# Altium schematic symbol library Capacitors.SchLib: 139 symbols (part 1 of 2)
Pins are listed as number, name and electrical type; pins without a type are passive.

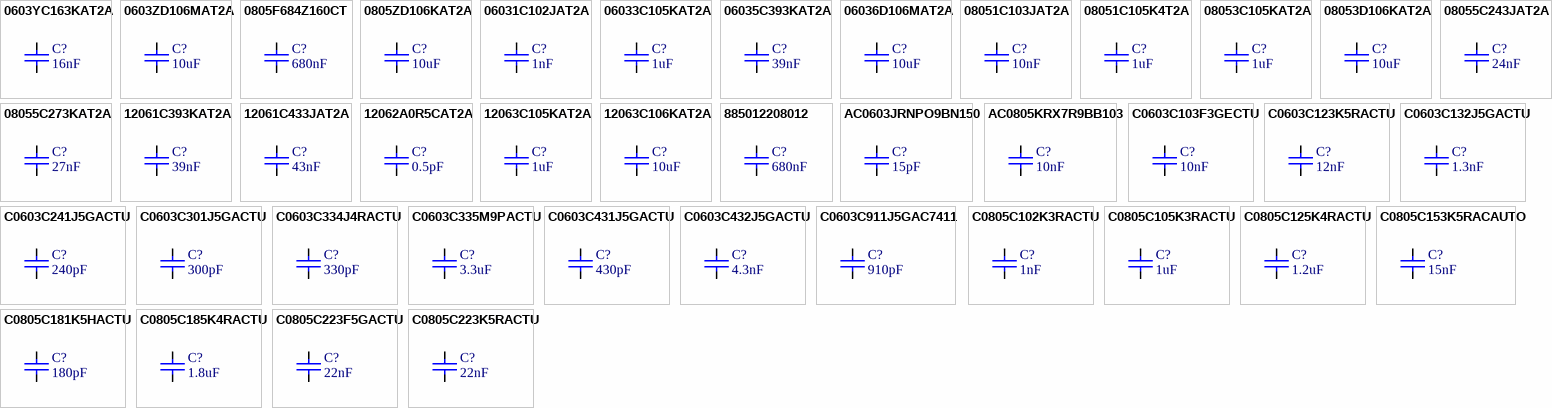
[diagram p0: symbols 0603YC163KAT2A to C0805C223K5RACTU]

## 0603YC163KAT2A
designator C?, comment 16nF
CAP MLCC, 16nF, 16V, 0603 [1608 metric], ±10%, X7R; Manufacturer: AVX; Manufacturer Part Number: 0603YC163KAT2A; Value: 16nF; Package: 0603 [1608 Metric]; Supplier 1: Mouser; Supplier Part Number 1: 581-0603YC163KAT2A; ComponentLink1Description: Datasheet; ComponentLink1URL: https://eu.mouser.com/datasheet/2/40/X7RDielectric-777024.pdf; Voltage: 16V; Tolerance: ± 10%; Dielectric: X7R; Part Type: MLCC; Mounting: SMD
footprint CAPC1608N (Chip Capacitor, Body 1.6x0.8mm, Height 0.55mm, IPC Medium Density)
pins: 1, 2

## 0603ZD106MAT2A
designator C?, comment 10uF
CAP MLCC, 10uF, 10V, 0603 [1608 Metric], ±20%, X5R; Manufacturer: AVX; Manufacturer Part Number: 0603ZD106MAT2A; Value: 10uF; Package: 0603 [1608 Metric]; Supplier 1: Farnell; Supplier Part Number 1: 1867954; ComponentLink1Description: Datasheet; ComponentLink1URL: http://www.farnell.com/datasheets/2237828.pdf; Voltage: 10V; Tolerance: ± 20%; Dielectric: X5R; Mounting: SMD; Part Type: MLCC
footprint CAPC1608N (Chip Capacitor, Body 1.6x0.8mm, Height 0.55mm, IPC Medium Density)
pins: 1, 2

## 0805F684Z160CT
designator C?, comment 680nF
CAP MLCC, 680nF, 16V, 0805 [2012 Metric], +80%, -20%, Y5V; Manufacturer: WALSIN; Manufacturer Part Number: 0805F684Z160CT; Value: 680nF; Package: 0805 [2012 Metric]; Supplier 1: Farnell; Supplier Part Number 1: 2495504; ComponentLink1Description: Datasheet; ComponentLink1URL: http://www.farnell.com/datasheets/2340522.pdf; Voltage: 16V; Tolerance: +80%, -20%; Dielectric: Y5V; Mounting: SMD; Part Type: MLCC
footprint CAPC2012N (Chip Capacitor, Body 2.0x1.25mm, IPC Medium Density)
pins: 1, 2

## 0805ZD106KAT2A
designator C?, comment 10uF
CAP MLCC, 10uF, 10V, 0805 [2012 Metric], ±10%, X5R; Manufacturer: AVX; Manufacturer Part Number: 0805ZD106KAT2A; Value: 10uF; Package: 0805 [2012 Metric]; Supplier 1: Farnell; Supplier Part Number 1: 1833812; ComponentLink1Description: Datasheet; ComponentLink1URL: http://www.farnell.com/datasheets/2237828.pdf; Voltage: 10V; Tolerance: ± 10%; Dielectric: X5R; Mounting: SMD; Part Type: MLCC
footprint CAPC2012N (Chip Capacitor, Body 2.0x1.25mm, IPC Medium Density)
pins: 1, 2

## 06031C102JAT2A
designator C?, comment 1nF
CAP MLCC, 1nF, 100V, 0603 [1608 Metric], ±5%, X7R; Manufacturer: AVX; Manufacturer Part Number: 06031C102JAT2A; Value: 1nF; Package: 0603 [1608 Metric]; Supplier 1: Farnell; Supplier Part Number 1: 1740627; ComponentLink1Description: Datasheet; ComponentLink1URL: http://www.farnell.com/datasheets/2237835.pdf; Voltage: 100V; Tolerance: ± 5%; Dielectric: X7R; Mounting: SMD; Part Type: MLCC
footprint CAPC1608N (Chip Capacitor, Body 1.6x0.8mm, Height 0.55mm, IPC Medium Density)
pins: 1, 2

## 06033C105KAT2A
designator C?, comment 1uF
CAP MLCC, 1uF, 25V, 0603 [1608 Metric], ±10%, X7R; Manufacturer: AVX; Manufacturer Part Number: 06033C105KAT2A; Value: 1uF; Package: 0603 [1608 Metric]; Supplier 1: Farnell; Supplier Part Number 1: 2749807; ComponentLink1Description: Datasheet; ComponentLink1URL: http://www.farnell.com/datasheets/2260754.pdf; Voltage: 25V; Tolerance: ± 10%; Dielectric: X7R; Mounting: SMD; Part Type: MLCC
footprint CAPC1608N (Chip Capacitor, Body 1.6x0.8mm, Height 0.55mm, IPC Medium Density)
pins: 1, 2

## 06035C393KAT2A
designator C?, comment 39nF
CAP MLCC, 39nF, 50V, 0603 [1608 Metric], ±10%, X7R; Manufacturer: AVX; Manufacturer Part Number: 06035C393KAT2A; Value: 39nF; Package: 0603 [1608 Metric]; Supplier 1: Farnell; Supplier Part Number 1: 1740619; ComponentLink1Description: Datasheet; ComponentLink1URL: http://www.farnell.com/datasheets/2237835.pdf; Voltage: 50V; Tolerance: ± 10%; Dielectric: X7R; Mounting: SMD; Part Type: MLCC
footprint CAPC1608N (Chip Capacitor, Body 1.6x0.8mm, Height 0.55mm, IPC Medium Density)
pins: 1, 2

## 06036D106MAT2A
designator C?, comment 10uF
CAP MLCC, 10uF, 6.3V, 0603 [1608 Metric], ±20%, X7R; Manufacturer: AVX; Manufacturer Part Number: 06036D106MAT2A; Value: 10uF; Package: 0603 [1608 Metric]; Supplier 1: Farnell; Supplier Part Number 1: 1833804; ComponentLink1Description: Datasheet; ComponentLink1URL: http://www.farnell.com/datasheets/2237828.pdf; Voltage: 6.3V; Tolerance: ± 20%; Dielectric: X7R; Mounting: SMD; Part Type: MLCC
footprint CAPC1608N (Chip Capacitor, Body 1.6x0.8mm, Height 0.55mm, IPC Medium Density)
pins: 1, 2

## 08051C103JAT2A
designator C?, comment 10nF
CAP MLCC, 10nF, 100V, 0805 [2012 Metric], ±5%, X7R; Manufacturer: AVX; Manufacturer Part Number: 08051C103JAT2A; Value: 10nF; Package: 0805 [2012 Metric]; Supplier 1: Farnell; Supplier Part Number 1: 2332713; ComponentLink1Description: Datasheet; ComponentLink1URL: http://www.farnell.com/datasheets/2237835.pdf; Voltage: 100V; Tolerance: ± 5%; Dielectric: X7R; Mounting: SMD; Part Type: MLCC
footprint CAPC2012N (Chip Capacitor, Body 2.0x1.25mm, IPC Medium Density)
pins: 1, 2

## 08051C105K4T2A
designator C?, comment 1uF
CAP MLCC, 1uF, 100V, 0805 [2012 Metric], ±5%, X7R; Manufacturer: AVX; Manufacturer Part Number: 08051C105K4T2A; Tolerance: ± 10%; Value: 1uF; Package: 0805 [2012 Metric]; Supplier 1: Farnell; Supplier Part Number 1: 2834935; ComponentLink1Description: Datasheet; ComponentLink1URL: http://www.farnell.com/datasheets/2571681.pdf; Voltage: 100V; Dielectric: X7R; Mounting: SMD; Part Type: MLCC
footprint CAPC2012N (Chip Capacitor, Body 2.0x1.25mm, IPC Medium Density)
pins: 1, 2

## 08053C105KAT2A
designator C?, comment 1uF
CAP MLCC, 1uF, 25V, 0805 [2012 Metric], ±10%, X7R; Manufacturer: AVX; Manufacturer Part Number: 08053C105KAT2A; Value: 1uF; Package: 0805 [2012 Metric]; Supplier 1: Farnell; Supplier Part Number 1: 1658877; ComponentLink1Description: Datasheet; ComponentLink1URL: http://www.farnell.com/datasheets/2237835.pdf; Voltage: 25V; Tolerance: ± 10%; Dielectric: X7R; Mounting: SMD; Part Type: MLCC
footprint CAPC2012N (Chip Capacitor, Body 2.0x1.25mm, IPC Medium Density)
pins: 1, 2

## 08053D106KAT2A
designator C?, comment 10uF
CAP MLCC, 10uF, 25V, 0805 [2012 Metric], ±10%, X7R; Manufacturer: AVX; Manufacturer Part Number: 08053D106KAT2A; Value: 10uF; Package: 0805 [2012 Metric]; Supplier 1: Farnell; Supplier Part Number 1: 1867958; ComponentLink1Description: Datasheet; ComponentLink1URL: http://www.farnell.com/datasheets/2237828.pdf; Voltage: 25V; Tolerance: ± 10%; Dielectric: X7R; Mounting: SMD; Part Type: MLCC
footprint CAPC2012N (Chip Capacitor, Body 2.0x1.25mm, IPC Medium Density)
pins: 1, 2

## 08055C243JAT2A
designator C?, comment 24nF
CAP MLCC, 24nF, 50V, 0805 [2012 Metric], ±5%, X7R; Manufacturer: AVX; Manufacturer Part Number: 08055C243JAT2A; Value: 24nF; Package: 0805 [2012 Metric]; Supplier 1: Mouser; Supplier Part Number 1: 581-08055C243JAT2A; ComponentLink1Description: Datasheet; ComponentLink1URL: https://eu.mouser.com/datasheet/2/40/X7RDielectric-777024.pdf; Voltage: 50V; Tolerance: ± 5%; Dielectric: X7R; Mounting: SMD; Part Type: MLCC
footprint CAPC2012N (Chip Capacitor, Body 2.0x1.25mm, IPC Medium Density)
pins: 1, 2

## 08055C273KAT2A
designator C?, comment 27nF
CAP MLCC, 27nF, 50V, 0805 [2012 Metric], ±10%, X7R; Manufacturer: AVX; Manufacturer Part Number: 08055C273KAT2A; Value: 27nF; Package: 0805 [2012 Metric]; Supplier 1: Farnell; Supplier Part Number 1: 2332799; ComponentLink1Description: Datasheet; ComponentLink1URL: http://www.farnell.com/datasheets/2237835.pdf; Voltage: 50V; Tolerance: ± 10%; Dielectric: X7R; Mounting: SMD; Part Type: MLCC
footprint CAPC2012N (Chip Capacitor, Body 2.0x1.25mm, IPC Medium Density)
pins: 1, 2

## 12061C393KAT2A
designator C?, comment 39nF
CAP MLCC, 39nF, 100V, 1206 [3216 Metric], ±10%, X7R; Manufacturer: AVX; Manufacturer Part Number: 12061C393KAT2A; Value: 39nF; Package: 1206 [3216 Metric]; Supplier 1: Farnell; Supplier Part Number 1: 1740717; ComponentLink1Description: Datasheet; ComponentLink1URL: http://www.farnell.com/datasheets/2237835.pdf; Voltage: 100V; Tolerance: ± 10%; Dielectric: X7R; Part Type: MLCC; Mounting: SMD
footprint CAPC3216N (Chip Capacitor, Body 3.2x1.6mm, IPC Medium Density)
pins: 1, 2

## 12061C433JAT2A
designator C?, comment 43nF
CAP MLCC, 43nF, 100V, 1206 [3216 Metric], ±5%, X7R; Manufacturer: AVX; Manufacturer Part Number: 12061C433JAT2A; Value: 43nF; Package: 1206 [3216 Metric]; Supplier 1: Mouser; Supplier Part Number 1: 581-12061C433JAT2A; ComponentLink1Description: Datasheet; ComponentLink1URL: https://eu.mouser.com/datasheet/2/40/X7RDielectric-777024.pdf; Voltage: 100V; Tolerance: ± 5%; Dielectric: X7R; Mounting: SMD; Part Type: MLCC
footprint CAPC3216N (Chip Capacitor, Body 3.2x1.6mm, IPC Medium Density)
pins: 1, 2

## 12062A0R5CAT2A
designator C?, comment 0.5pF
CAP MLCC, 0.5pF, 200V, 1206 [3216 Metric], ±0.25pF, C0G / NP0; Manufacturer: AVX; Manufacturer Part Number: 12062A0R5CAT2A; Value: 0.5pF; Supplier 1: Mouser; Supplier Part Number 1: 581-12062A0R5CAT2A; Tolerance: ± 0.25pF; Voltage: 200V; Package: 1206 [3216 Metric]; Part Type: MLCC; ComponentLink1Description: Datasheet; ComponentLink1URL: https://eu.mouser.com/datasheet/2/40/C0GNP0_Dielectric-951274.pdf; Mounting: SMD; Dielectric: C0G / NP0
footprint CAPC3216N (Chip Capacitor, Body 3.2x1.6mm, IPC Medium Density)
pins: 1, 2
1 alternate drawing of the same symbol

## 12063C105KAT2A
designator C?, comment 1uF
CAP MLCC, 1uF, 25V, 1206 [3216 Metric], ±10%, X7R; Manufacturer: AVX; Manufacturer Part Number: 12063C105KAT2A; Value: 1uF; Package: 1206 [3216 Metric]; Supplier 1: Farnell; Supplier Part Number 1: 1327717; ComponentLink1Description: Datasheet; ComponentLink1URL: https://4donline.ihs.com/images/VipMasterIC/IC/AVXC/AVXC-S-A0004824845/AVXC-S-A0004824845-1.pdf?hkey=6D3A4C79FDBF58556ACFDE234799DDF0; Voltage: 25V; Tolerance: ± 10%; Dielectric: X7R; Mounting: SMD; Part Type: MLCC
footprint CAPC3216N (Chip Capacitor, Body 3.2x1.6mm, IPC Medium Density)
pins: 1, 2

## 12063C106KAT2A
designator C?, comment 10uF
CAP MLCC, 10uF, 25V, 1206 [3216 Metric], ±10%, X7R; Manufacturer: AVX; Manufacturer Part Number: 12063C106KAT2A; Value: 10uF; Package: 1206 [3216 Metric]; Supplier 1: Farnell; Supplier Part Number 1: 2094044; ComponentLink1Description: Datasheet; ComponentLink1URL: http://www.farnell.com/datasheets/2260753.pdf; Voltage: 25V; Tolerance: ± 10%; Dielectric: X7R; Mounting: SMD; Part Type: MLCC
footprint CAPC3216N (Chip Capacitor, Body 3.2x1.6mm, IPC Medium Density)
pins: 1, 2

## 885012208012
designator C?, comment 680nF
CAP MLCC, 680nF, 10V, 1206 [3216 Metric], ±10%, X7R; Manufacturer: WURTH ELEKTRONIK; Manufacturer Part Number: 885012208012; Value: 680nF; Package: 1206 [3216 Metric]; Supplier 1: Farnell; Supplier Part Number 1: 2812450; ComponentLink1Description: Datasheet; ComponentLink1URL: http://www.farnell.com/datasheets/2546927.pdf; Voltage: 10V; Tolerance: ± 10%; Dielectric: X7R; Mounting: SMD; Part Type: MLCC
footprint CAPC3216N (Chip Capacitor, Body 3.2x1.6mm, IPC Medium Density)
pins: 1, 2

## AC0603JRNPO9BN150
designator C?, comment 15pF
CAP MLCC, 15pF, 50V, 0603 [1608 Metric], ±5%, X7R; Manufacturer: YAGEO; Manufacturer Part Number: AC0603JRNPO9BN150; Value: 15pF; Package: 0603 [1608 Metric]; Supplier 1: Farnell; Supplier Part Number 1: 3368986; ComponentLink1Description: Datasheet; ComponentLink1URL: http://www.farnell.com/datasheets/2899221.pdf; Voltage: 50V; Tolerance: ± 5%; Dielectric: X7R; Mounting: SMD; Part Type: MLCC
footprint CAPC1608N (Chip Capacitor, Body 1.6x0.8mm, Height 0.55mm, IPC Medium Density)
pins: 1, 2

## AC0805KRX7R9BB103
designator C?, comment 10nF
CAP MLCC, 10nF, 50V, 0805 [2012 Metric], ±10%, X7R; Manufacturer: YAGEO; Manufacturer Part Number: AC0805KRX7R9BB103; Value: 10nF; Package: 0805 [2012 Metric]; Supplier 1: Farnell; Supplier Part Number 1: 3369005; ComponentLink1Description: Datasheet; ComponentLink1URL: http://www.farnell.com/datasheets/2899221.pdf; Voltage: 50V; Tolerance: ± 10%; Dielectric: X7R; Mounting: SMD; Part Type: MLCC
footprint CAPC2012N (Chip Capacitor, Body 2.0x1.25mm, IPC Medium Density)
pins: 1, 2

## C0603C103F3GECTU
designator C?, comment 10nF
CAP MLCC, 10nF, 25V, 0603 [1608 metric], ±1%, C0G / NP0; Manufacturer: KEMET; Manufacturer Part Number: C0603C103F3GECTU; Value: 10nF; Package: 0603 [1608 Metric]; Supplier 1: Farnell; Supplier Part Number 1: 2991228; ComponentLink1Description: Datasheet; ComponentLink1URL: https://api.kemet.com/component-edge/download/specsheet/C0603C103F3GECTU.pdf; Voltage: 25V; Tolerance: ± 1%; Dielectric: C0G / NP0; Mounting: SMD; Part Type: MLCC
footprint CAPC1608N (Chip Capacitor, Body 1.6x0.8mm, Height 0.55mm, IPC Medium Density)
pins: 1, 2

## C0603C123K5RACTU
designator C?, comment 12nF
CAP MLCC, 12nF, 50V, 0603 [1608 Metric], ±10%, X7R; Manufacturer: KEMET; Manufacturer Part Number: C0603C123K5RACTU; Value: 12nF; Package: 0603 [1608 Metric]; Supplier 1: Farnell; Supplier Part Number 1: 1865534; ComponentLink1Description: Datasheet; ComponentLink1URL: https://api.kemet.com/component-edge/download/specsheet/C0603C123K5RACTU.pdf; Voltage: 50V; Tolerance: ± 10%; Dielectric: X7R; Mounting: SMD; Part Type: MLCC
footprint CAPC1608N (Chip Capacitor, Body 1.6x0.8mm, Height 0.55mm, IPC Medium Density)
pins: 1, 2

## C0603C132J5GACTU
designator C?, comment 1.3nF
CAP MLCC, 1.3nF, 50V, 0603 [1608 Metric], ±5%, C0G / NP0; Manufacturer: KEMET; Manufacturer Part Number: C0603C132J5GACTU; Value: 1.3nF; Package: 0603 [1608 Metric]; Supplier 1: Farnell; Supplier Part Number 1: 1865486; ComponentLink1Description: Datasheet; ComponentLink1URL: https://api.kemet.com/component-edge/download/specsheet/C0603C132J5GACTU.pdf; Voltage: 50V; Tolerance: ± 5%; Dielectric: C0G / NP0; Mounting: SMD; Part Type: MLCC
footprint CAPC1608N (Chip Capacitor, Body 1.6x0.8mm, Height 0.55mm, IPC Medium Density)
pins: 1, 2

## C0603C241J5GACTU
designator C?, comment 240pF
CAP MLCC, 240pF, 50V, 0603 [1608 Metric], ±5%, C0G / NP0; Manufacturer: KEMET; Manufacturer Part Number: C0603C241J5GACTU; Value: 240pF; Package: 0603 [1608 Metric]; Supplier 1: Farnell; Supplier Part Number 1: 2821134; ComponentLink1Description: Datasheet; ComponentLink1URL: https://api.kemet.com/component-edge/download/specsheet/C0603C241J5GACTU.pdf; Voltage: 50V; Tolerance: ± 5%; Dielectric: C0G / NP0; Mounting: SMD; Part Type: MLCC
footprint CAPC1608N (Chip Capacitor, Body 1.6x0.8mm, Height 0.55mm, IPC Medium Density)
pins: 1, 2

## C0603C301J5GACTU
designator C?, comment 300pF
CAP MLCC, 300pF, 50V, 0603 [1608 Metric], ±5%, C0G / NP0; Manufacturer: KEMET; Manufacturer Part Number: C0603C301J5GACTU; Value: 300pF; Package: 0603 [1608 Metric]; Supplier 1: Farnell; Supplier Part Number 1: 2773150; ComponentLink1Description: Datasheet; ComponentLink1URL: https://api.kemet.com/component-edge/download/specsheet/C0603C301J5GACTU.pdf; Voltage: 50V; Tolerance: ± 5%; Dielectric: C0G / NP0; Mounting: SMD; Part Type: MLCC
footprint CAPC1608N (Chip Capacitor, Body 1.6x0.8mm, Height 0.55mm, IPC Medium Density)
pins: 1, 2

## C0603C334J4RACTU
designator C?, comment 330pF
CAP MLCC, 330pF, 16V, 0603 [1608 Metric], ±5%, X7R; Manufacturer: KEMET; Manufacturer Part Number: C0603C334J4RACTU; Value: 330pF; Package: 0603 [1608 Metric]; Supplier 1: Farnell; Supplier Part Number 1: 2581063; ComponentLink1Description: Datasheet; ComponentLink1URL: https://api.kemet.com/component-edge/download/specsheet/C0603C334J4RACTU.pdf; Voltage: 16V; Tolerance: ± 5%; Dielectric: X7R; Mounting: SMD; Part Type: MLCC
footprint CAPC1608N (Chip Capacitor, Body 1.6x0.8mm, Height 0.55mm, IPC Medium Density)
pins: 1, 2

## C0603C335M9PACTU
designator C?, comment 3.3uF
CAP MLCC, 3.3uF, 6.3V, 0603 [1608 Metric], ±20%, X5R; Manufacturer: KEMET; Manufacturer Part Number: C0603C335M9PACTU; Value: 3.3uF; Package: 0603 [1608 Metric]; Supplier 1: Farnell; Supplier Part Number 1: 1108324; ComponentLink1Description: Datasheet; ComponentLink1URL: https://api.kemet.com/component-edge/download/specsheet/C0603C335M9PACTU.pdf; Voltage: 6.3V; Tolerance: ± 20%; Dielectric: X5R; Mounting: SMD; Part Type: MLCC
footprint CAPC1608N (Chip Capacitor, Body 1.6x0.8mm, Height 0.55mm, IPC Medium Density)
pins: 1, 2

## C0603C431J5GACTU
designator C?, comment 430pF
CAP MLCC, 430pF, 50V, 0603 [1608 Metric], ±5%, C0G / NP0; Manufacturer: KEMET; Manufacturer Part Number: C0603C431J5GACTU; Value: 430pF; Package: 0603 [1608 Metric]; Supplier 1: Farnell; Supplier Part Number 1: 2821196; ComponentLink1Description: Datasheet; ComponentLink1URL: https://api.kemet.com/component-edge/download/specsheet/C0603C431J5GACTU.pdf; Voltage: 50V; Tolerance: ± 5%; Dielectric: C0G / NP0; Mounting: SMD; Part Type: MLCC
footprint CAPC1608N (Chip Capacitor, Body 1.6x0.8mm, Height 0.55mm, IPC Medium Density)
pins: 1, 2

## C0603C432J5GACTU
designator C?, comment 4.3nF
CAP MLCC, 4.3nF, 50V, 0603 [1608 Metric], ±5%, C0G / NP0; Manufacturer: KEMET; Manufacturer Part Number: C0603C432J5GACTU; Value: 4.3nF; Package: 0603 [1608 Metric]; Supplier 1: Farnell; Supplier Part Number 1: 1865494; ComponentLink1Description: Datasheet; ComponentLink1URL: https://api.kemet.com/component-edge/download/specsheet/C0603C432J5GACTU.pdf; Voltage: 50V; Tolerance: ± 5%; Dielectric: C0G / NP0; Mounting: SMD; Part Type: MLCC
footprint CAPC1608N (Chip Capacitor, Body 1.6x0.8mm, Height 0.55mm, IPC Medium Density)
pins: 1, 2

## C0603C911J5GAC7411
designator C?, comment 910pF
CAP MLCC, 910pF, 50V, 0603 [1608 Metric], ±5%, C0G / NP0; Manufacturer: KEMET; Manufacturer Part Number: C0603C911J5GAC7411; Value: 910pF; Package: 0603 [1608 Metric]; Supplier 1: Farnell; Supplier Part Number 1: 3509649; ComponentLink1Description: Datasheet; ComponentLink1URL: https://api.kemet.com/component-edge/download/specsheet/C0603C911J5GAC7411.pdf; Voltage: 50V; Tolerance: ± 5%; Dielectric: C0G / NP0; Mounting: SMD; Part Type: MLCC
footprint CAPC1608N (Chip Capacitor, Body 1.6x0.8mm, Height 0.55mm, IPC Medium Density)
pins: 1, 2

## C0805C102K3RACTU
designator C?, comment 1nF
CAP MLCC, 1nF, 25V, 0805 [2012 Metric], ±10%, X7R; Manufacturer: KEMET; Manufacturer Part Number: C0805C102K3RACTU; Value: 1nF; Package: 0805 [2012 Metric]; Supplier 1: Farnell; Supplier Part Number 1: 2821242; ComponentLink1Description: Datasheet; ComponentLink1URL: https://lt.farnell.com/kemet/c0805c102k3ractu/cap-1000pf-25v-10-x7r-0805/dp/2821242?st=cap%20mlcc,%201000pf,%2025v,%200805%20[2012%20metric],%20±10%25,%20x7r; Voltage: 25V; Tolerance: ± 10%; Dielectric: X7R; Mounting: SMD; Part Type: MLCC
footprint CAPC2012N (Chip Capacitor, Body 2.0x1.25mm, IPC Medium Density)
pins: 1, 2

## C0805C105K3RACTU
designator C?, comment 1uF
CAP MLCC, 1uF, 25V, 0805 [2012 Metric], ±10%, X7R; Manufacturer: KEMET; Manufacturer Part Number: C0805C105K3RACTU; Value: 1uF; Package: 0805 [2012 Metric]; Supplier 1: Farnell; Supplier Part Number 1: 1637035; ComponentLink1Description: Datasheet; ComponentLink1URL: https://api.kemet.com/component-edge/download/specsheet/C0805C105K3RACTU.pdf; Voltage: 25V; Tolerance: ± 10%; Dielectric: X7R; Mounting: SMD; Part Type: MLCC
footprint CAPC2012N (Chip Capacitor, Body 2.0x1.25mm, IPC Medium Density)
pins: 1, 2

## C0805C125K4RACTU
designator C?, comment 1.2uF
CAP MLCC, 1.2uF, 25V, 0805 [2012 Metric], ±10%, X7R; Manufacturer: KEMET; Manufacturer Part Number: C0805C125K4RACTU; Voltage: 16V; Value: 1.2uF; Package: 0805 [2012 Metric]; Supplier 1: Farnell; Supplier Part Number 1: 1907064; ComponentLink1Description: Datasheet; ComponentLink1URL: https://api.kemet.com/component-edge/download/specsheet/C0805C125K4RACTU.pdf; Tolerance: ± 10%; Dielectric: X7R; Mounting: SMD; Part Type: MLCC
footprint CAPC2012N (Chip Capacitor, Body 2.0x1.25mm, IPC Medium Density)
pins: 1, 2

## C0805C153K5RACAUTO
designator C?, comment 15nF
CAP MLCC, 15nF, 50V, 0805 [2012 Metric], ±10%, X7R; Manufacturer: AVX; Manufacturer Part Number: C0805C153K5RACAUTO; Value: 15nF; Package: 0805 [2012 Metric]; Supplier 1: Farnell; Supplier Part Number 1: 2520755; ComponentLink1Description: Datasheet; ComponentLink1URL: https://api.kemet.com/component-edge/download/specsheet/C0805C153K5RACAUTO.pdf; Voltage: 50V; Tolerance: ± 10%; Dielectric: X7R; Part Type: MLCC; Mounting: SMD
footprint CAPC2012N (Chip Capacitor, Body 2.0x1.25mm, IPC Medium Density)
pins: 1, 2

## C0805C181K5HACTU
designator C?, comment 180pF
CAP MLCC, 180pF, 50V, 0805 [2012 Metric], ±10%, X8R; Manufacturer: KEMET; Manufacturer Part Number: C0805C181K5HACTU; Value: 180pF; Package: 0805 [2012 Metric]; Supplier 1: Mouser; Supplier Part Number 1: 80-C0805C181K5HACTU; ComponentLink1Description: Datasheet; ComponentLink1URL: https://eu.mouser.com/datasheet/2/212/KEM_C1007_X8R_ULTRA_150C_SMD-1102703.pdf; Voltage: 50V; Tolerance: ± 10%; Dielectric: X8R; Mounting: SMD; Part Type: MLCC
footprint CAPC2012N (Chip Capacitor, Body 2.0x1.25mm, IPC Medium Density)
pins: 1, 2

## C0805C185K4RACTU
designator C?, comment 1.8uF
CAP MLCC, 1.8uF, 16V, 0805 [2012 Metric], ±10%, X7R; Manufacturer: KEMET; Manufacturer Part Number: C0805C185K4RACTU; Value: 1.8uF; Package: 0805 [2012 Metric]; Supplier 1: Farnell; Supplier Part Number 1: 1907066; ComponentLink1Description: Datasheet; ComponentLink1URL: https://api.kemet.com/component-edge/download/specsheet/C0805C185K4RACTU.pdf; Voltage: 16V; Tolerance: ± 10%; Dielectric: X7R; Mounting: SMD; Part Type: MLCC
footprint CAPC2012N (Chip Capacitor, Body 2.0x1.25mm, IPC Medium Density)
pins: 1, 2

## C0805C223F5GACTU
designator C?, comment 22nF
CAP MLCC, 22nF, 50V, 0805 [2012 metric], ±5%, X7R; Manufacturer: MULTICOMP PRO; Manufacturer Part Number: C0805C223F5GACTU; Value: 22nF; Package: 0805 [2012 Metric]; Supplier 1: Farnell; Supplier Part Number 1: 2320841; ComponentLink1Description: Datasheet; ComponentLink1URL: http://www.farnell.com/datasheets/1870456.pdf; Voltage: 50V; Tolerance: ± 5%; Dielectric: X7R; Mounting: SMD; Part Type: MLCC
footprint CAPC2012N (Chip Capacitor, Body 2.0x1.25mm, IPC Medium Density)
pins: 1, 2

## C0805C223K5RACTU
designator C?, comment 22nF
CAP MLCC, 22nF, 50V, 0805 [2012 Metric], ±10%, X7R; Manufacturer: KEMET; Manufacturer Part Number: C0805C223K5RACTU; Value: 22nF; Package: 0805 [2012 Metric]; Supplier 1: Farnell; Supplier Part Number 1: 1414682; ComponentLink1Description: Datasheet; ComponentLink1URL: http://www.farnell.com/datasheets/2740693.pdf; Voltage: 50V; Tolerance: ± 10%; Dielectric: X7R; Mounting: SMD; Part Type: MLCC
footprint CAPC2012N (Chip Capacitor, Body 2.0x1.25mm, IPC Medium Density)
pins: 1, 2

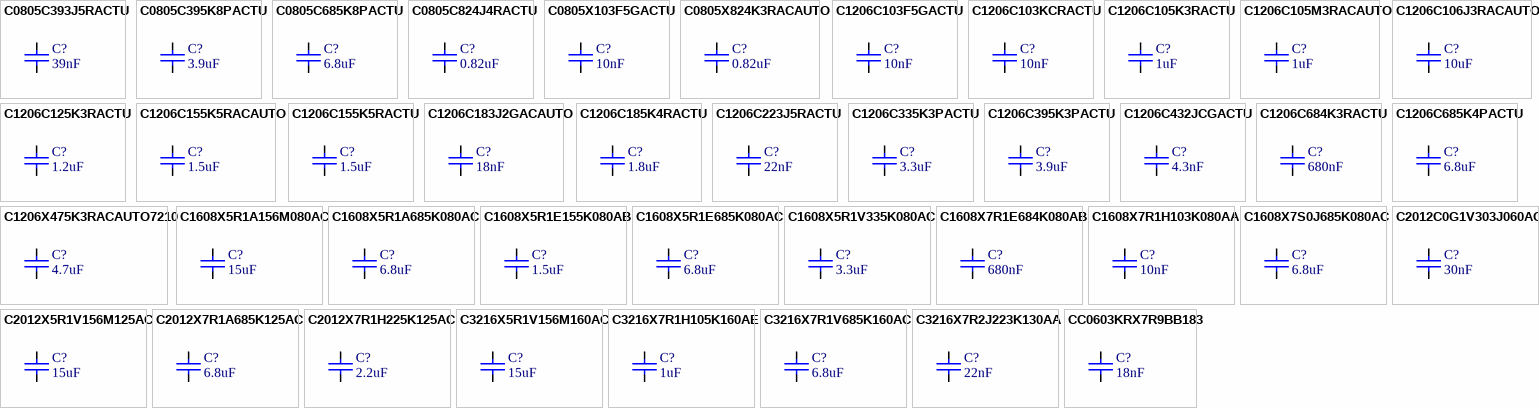
[diagram p1: symbols C0805C393J5RACTU to CC0603KRX7R9BB183]

## C0805C393J5RACTU
designator C?, comment 39nF
CAP MLCC, 39nF, 50 V, 0805 [2012 Metric], ± 5%, X7R; Manufacturer: KEMET; Manufacturer Part Number: C0805C393J5RACTU; Voltage: 50V; Value: 39nF; Package: 0805 [2012 Metric]; Supplier 1: Farnell; Supplier Part Number 1: 2905275; ComponentLink1Description: Datasheet; ComponentLink1URL: https://api.kemet.com/component-edge/download/specsheet/C0805C393J5RACTU.pdf; Tolerance: ± 5%; Dielectric: X7R; Part Type: MLCC; Mounting: SMD
footprint CAPC2012N (Chip Capacitor, Body 2.0x1.25mm, IPC Medium Density)
pins: 1, 2

## C0805C395K8PACTU
designator C?, comment 3.9uF
CAP MLCC, 3.9uF, 10V, 0805 [2012 Metric], ±10%, X5R; Manufacturer: KEMET; Manufacturer Part Number: C0805C395K8PACTU; Value: 3.9uF; Package: 0805 [2012 Metric]; Supplier 1: Farnell; Supplier Part Number 1: 2773257; ComponentLink1Description: Datasheet; ComponentLink1URL: https://api.kemet.com/component-edge/download/specsheet/C0805C395K8PACTU.pdf; Voltage: 10V; Tolerance: ± 10%; Dielectric: X5R; Mounting: SMD; Part Type: MLCC
footprint CAPC2012N (Chip Capacitor, Body 2.0x1.25mm, IPC Medium Density)
pins: 1, 2

## C0805C685K8PACTU
designator C?, comment 6.8uF
CAP MLCC, 6.8uF, 10V, 0805 [2012 Metric], ±10%, X5R; Manufacturer: KEMET; Manufacturer Part Number: C0805C685K8PACTU; Value: 6.8uF; Package: 0805 [2012 Metric]; Supplier 1: Farnell; Supplier Part Number 1: 1572632; ComponentLink1Description: Datasheet; ComponentLink1URL: https://api.kemet.com/component-edge/download/specsheet/C0805C685K8PACTU.pdf; Voltage: 10V; Tolerance: ± 10%; Dielectric: X5R; Mounting: SMD; Part Type: MLCC
footprint CAPC2012N (Chip Capacitor, Body 2.0x1.25mm, IPC Medium Density)
pins: 1, 2

## C0805C824J4RACTU
designator C?, comment 0.82uF
CAP MLCC, 0.82uF, 16V, 0805 [2012 Metric], ±5%, X7R; Manufacturer: KEMET; Manufacturer Part Number: C0805C824J4RACTU; Value: 0.82uF; Package: 0805 [2012 Metric]; Supplier 1: Farnell; Supplier Part Number 1: 2943169; ComponentLink1Description: Datasheet; ComponentLink1URL: https://api.kemet.com/component-edge/download/specsheet/C0805C824J4RACTU.pdf; Voltage: 16V; Tolerance: ± 5%; Dielectric: X7R; Mounting: SMD; Part Type: MLCC
footprint CAPC2012N (Chip Capacitor, Body 2.0x1.25mm, IPC Medium Density)
pins: 1, 2

## C0805X103F5GACTU
designator C?, comment 10nF
CAP MLCC, 10nF, 50V, 0805 [2012 metric], ±1%, C0G / NP0; Manufacturer: KEMET; Manufacturer Part Number: C0805X103F5GACTU; Value: 10nF; Package: 0805 [2012 Metric]; Supplier 1: Farnell; Supplier Part Number 1: 2905558; ComponentLink1Description: Datasheet; ComponentLink1URL: https://api.kemet.com/component-edge/download/specsheet/C0805X103F5GACTU.pdf; Voltage: 50V; Tolerance: ± 1%; Dielectric: C0G / NP0; Mounting: SMD; Part Type: MLCC
footprint CAPC2012N (Chip Capacitor, Body 2.0x1.25mm, IPC Medium Density)
pins: 1, 2

## C0805X824K3RACAUTO
designator C?, comment 0.82uF
CAP MLCC, 0.82uF, 25V, 0805 [2012 Metric], ±10%, X7R; Manufacturer: KEMET; Manufacturer Part Number: C0805X824K3RACAUTO; Value: 0.82uF; Package: 0805 [2012 Metric]; Supplier 1: Farnell; Supplier Part Number 1: 3511341; ComponentLink1Description: Datasheet; ComponentLink1URL: https://api.kemet.com/component-edge/download/specsheet/C0805X824K3RACAUTO.pdf; Voltage: 25V; Tolerance: ± 10%; Dielectric: X7R; Mounting: SMD; Part Type: MLCC
footprint CAPC2012N (Chip Capacitor, Body 2.0x1.25mm, IPC Medium Density)
pins: 1, 2

## C1206C103F5GACTU
designator C?, comment 10nF
CAP MLCC, 10nF, 25V, 1206 [3216 metric], ±1%, C0G / NP0; Manufacturer: KEMET; Manufacturer Part Number: C1206C103F5GACTU; Voltage: 50V; Value: 10nF; Package: 1206 [3216 Metric]; Supplier 1: Farnell; Supplier Part Number 1: 2943386; ComponentLink1Description: Datasheet; ComponentLink1URL: https://api.kemet.com/component-edge/download/specsheet/C1206C103F5GACTU.pdf; Tolerance: ± 1%; Dielectric: C0G / NP0; Mounting: SMD; Part Type: MLCC
footprint CAPC3216N (Chip Capacitor, Body 3.2x1.6mm, IPC Medium Density)
pins: 1, 2

## C1206C103KCRACTU
designator C?, comment 10nF
CAP MLCC, 10nF, 500V, 1206 [3216 Metric], ±10%, X7R; Manufacturer: KEMET; Manufacturer Part Number: C1206C103KCRACTU; Value: 10nF; Package: 1206 [3216 Metric]; Supplier 1: Farnell; Supplier Part Number 1: 1288241; ComponentLink1Description: Datasheet; ComponentLink1URL: https://api.kemet.com/component-edge/download/specsheet/C1206C103KCRACTU.pdf; Voltage: 500V; Tolerance: ± 10%; Dielectric: X7R; Mounting: SMD; Part Type: MLCC
footprint CAPC3216N (Chip Capacitor, Body 3.2x1.6mm, IPC Medium Density)
pins: 1, 2

## C1206C105K3RACTU
designator C?, comment 1uF
CAP MLCC, 1uF, 25V, 1206 [3216 Metric], ±10%, X7R; Manufacturer: KEMET; Manufacturer Part Number: C1206C105K3RACTU; Value: 1uF; Package: 1206 [3216 Metric]; Supplier 1: Farnell; Supplier Part Number 1: 9227865; ComponentLink1Description: Datasheet; ComponentLink1URL: https://api.kemet.com/component-edge/download/specsheet/C1206C105K3RACTU.pdf; Voltage: 25V; Tolerance: ± 10%; Dielectric: X7R; Mounting: SMD; Part Type: MLCC
footprint CAPC3216N (Chip Capacitor, Body 3.2x1.6mm, IPC Medium Density)
pins: 1, 2

## C1206C105M3RACAUTO
designator C?, comment 1uF
CAP MLCC, 1uF, 25V, 1206 [3216 Metric], ±10%, X7R; Manufacturer: KEMET; Manufacturer Part Number: C1206C105M3RACAUTO; Tolerance: ± 20%; Value: 1uF; Package: 1206 [3216 Metric]; Supplier 1: Farnell; Supplier Part Number 1: 2905767; ComponentLink1Description: Datasheet; ComponentLink1URL: https://api.kemet.com/component-edge/download/specsheet/C1206C105M3RACAUTO.pdf; Voltage: 25V; Dielectric: X7R; Mounting: SMD; Part Type: MLCC
footprint CAPC3216N (Chip Capacitor, Body 3.2x1.6mm, IPC Medium Density)
pins: 1, 2

## C1206C106J3RACAUTO
designator C?, comment 10uF
CAP MLCC, 10uF, 25V, 1206 [3216 Metric], ±5%, X7R; Manufacturer: KEMET; Manufacturer Part Number: C1206C106J3RACAUTO; Value: 10uF; Package: 1206 [3216 Metric]; Supplier 1: Farnell; Supplier Part Number 1: 2776876; ComponentLink1Description: Datasheet; ComponentLink1URL: https://api.kemet.com/component-edge/download/specsheet/C1206C106J3RACAUTO.pdf; Voltage: 25V; Tolerance: ± 5%; Dielectric: X7R; Mounting: SMD; Part Type: MLCC
footprint CAPC3216N (Chip Capacitor, Body 3.2x1.6mm, IPC Medium Density)
pins: 1, 2

## C1206C125K3RACTU
designator C?, comment 1.2uF
CAP MLCC, 1.2uF, 25V, 1206 [3216 Metric], ±10%, X7R; Manufacturer: KEMET; Manufacturer Part Number: C1206C125K3RACTU; Value: 1.2uF; Package: 1206 [3216 Metric]; Supplier 1: Farnell; Supplier Part Number 1: 2905771; ComponentLink1Description: Datasheet; ComponentLink1URL: https://api.kemet.com/component-edge/download/specsheet/C1206C125K3RACTU.pdf; Voltage: 25V; Tolerance: ± 10%; Dielectric: X7R; Mounting: SMD; Part Type: MLCC
footprint CAPC3216N (Chip Capacitor, Body 3.2x1.6mm, IPC Medium Density)
pins: 1, 2

## C1206C155K5RACAUTO
designator C?, comment 1.5uF
CAP MLCC, 1.5µF, 50V, 1206 [3216 Metric], ±10%, X7R; Manufacturer: KEMET; Manufacturer Part Number: C1206C155K5RACAUTO; Value: 1.5uF; Package: 1206 [3216 Metric]; Supplier 1: Farnell; Supplier Part Number 1: 2820943; ComponentLink1URL: https://api.kemet.com/component-edge/download/specsheet/C1206C155K5RACAUTO.pdf; Voltage: 50V; Tolerance: ± 10%; Dielectric: X7R; Mounting: SMD; Part Type: MLCC; ComponentLink1Description: Datasheet
footprint CAPC3216N (Chip Capacitor, Body 3.2x1.6mm, IPC Medium Density)
pins: 1, 2

## C1206C155K5RACTU
designator C?, comment 1.5uF
CAP MLCC, 1.5uF, 25V, 1206 [3216 Metric], ±10%, X7R; Manufacturer: KEMET; Manufacturer Part Number: C1206C155K5RACTU; Voltage: 50V; Value: 1.5uF; Package: 1206 [3216 Metric]; Supplier 1: Farnell; Supplier Part Number 1: 2820945; ComponentLink1Description: Datasheet; ComponentLink1URL: https://api.kemet.com/component-edge/download/specsheet/C1206C155K5RACTU.pdf; Tolerance: ± 10%; Dielectric: X7R; Mounting: SMD; Part Type: MLCC
footprint CAPC3216N (Chip Capacitor, Body 3.2x1.6mm, IPC Medium Density)
pins: 1, 2

## C1206C183J2GACAUTO
designator C?, comment 18nF
CAP MLCC, 18nF, 200V, 1206 [3216 Metric], ± 5%, C0G / NP0; Manufacturer: KEMET; Manufacturer Part Number: C1206C183J2GACAUTO; Value: 18nF; Package: 1206 [3216 Metric]; Supplier 1: Farnell; Supplier Part Number 1: 2426902; ComponentLink1Description: Datasheet; ComponentLink1URL: https://api.kemet.com/component-edge/download/specsheet/C1206C183J2GACAUTO.pdf; Voltage: 200V; Tolerance: ± 5%; Dielectric: C0G / NP0; Mounting: SMD; Part Type: MLCC
footprint CAPC3216N (Chip Capacitor, Body 3.2x1.6mm, IPC Medium Density)
pins: 1, 2

## C1206C185K4RACTU
designator C?, comment 1.8uF
CAP MLCC, 1.8uF, 16V, 1206 [3216 Metric], ±10%, X7R; Manufacturer: KEMET; Manufacturer Part Number: C1206C185K4RACTU; Value: 1.8uF; Package: 1206 [3216 Metric]; Supplier 1: Farnell; Supplier Part Number 1: 2905782; ComponentLink1Description: Datasheet; ComponentLink1URL: https://api.kemet.com/component-edge/download/specsheet/C1206C185K4RACTU.pdf; Voltage: 16V; Tolerance: ± 10%; Dielectric: X7R; Mounting: SMD; Part Type: MLCC
footprint CAPC3216N (Chip Capacitor, Body 3.2x1.6mm, IPC Medium Density)
pins: 1, 2

## C1206C223J5RACTU
designator C?, comment 22nF
CAP MLCC, 22nF, 50V, 1206 [3216 Metric], ±5%, X7R; Manufacturer: KEMET; Manufacturer Part Number: C1206C223J5RACTU; Value: 22nF; Package: 1206 [3216 Metric]; Supplier 1: Farnell; Supplier Part Number 1: 2905795; ComponentLink1Description: Datasheet; ComponentLink1URL: https://api.kemet.com/component-edge/download/specsheet/C1206C223J5RACTU.pdf; Voltage: 50V; Tolerance: ± 5%; Dielectric: X7R; Mounting: SMD; Part Type: MLCC
footprint CAPC3216N (Chip Capacitor, Body 3.2x1.6mm, IPC Medium Density)
pins: 1, 2

## C1206C335K3PACTU
designator C?, comment 3.3uF
CAP MLCC, 3.3uF, 25V, 1206 [3216 Metric], ±10%, X5R; Manufacturer: KEMET; Manufacturer Part Number: C1206C335K3PACTU; Value: 3.3uF; Package: 1206 [3216 Metric]; Supplier 1: Farnell; Supplier Part Number 1: 2773330; ComponentLink1Description: Datasheet; ComponentLink1URL: https://api.kemet.com/component-edge/download/specsheet/C1206C335K3PACTU.pdf; Voltage: 25V; Tolerance: ± 10%; Dielectric: X5R; Mounting: SMD; Part Type: MLCC
footprint CAPC3216N (Chip Capacitor, Body 3.2x1.6mm, IPC Medium Density)
pins: 1, 2

## C1206C395K3PACTU
designator C?, comment 3.9uF
CAP MLCC, 3.9uF, 25V, 1206 [3216 Metric], ±10%, X5R; Manufacturer: KEMET; Manufacturer Part Number: C1206C395K3PACTU; Value: 3.9uF; Package: 1206 [3216 Metric]; Supplier 1: Farnell; Supplier Part Number 1: 2905822; ComponentLink1Description: Datasheet; ComponentLink1URL: https://api.kemet.com/component-edge/download/specsheet/C1206C395K3PACTU.pdf; Voltage: 25V; Tolerance: ± 10%; Dielectric: X5R; Mounting: SMD; Part Type: MLCC
footprint CAPC3216N (Chip Capacitor, Body 3.2x1.6mm, IPC Medium Density)
pins: 1, 2

## C1206C432JCGACTU
designator C?, comment 4.3nF
CAP MLCC, 4.3nF, 500V, 1206 [3216 Metric], ±5%, C0G / NP0; Manufacturer: KEMET; Manufacturer Part Number: C1206C432JCGACTU; Value: 4.3nF; Package: 1206 [3216 Metric]; Supplier 1: Farnell; Supplier Part Number 1: 3503361; ComponentLink1Description: Datasheet; ComponentLink1URL: https://api.kemet.com/component-edge/download/specsheet/C1206C432JCGACTU.pdf; Voltage: 500V; Tolerance: ± 5%; Dielectric: C0G / NP0; Mounting: SMD; Part Type: MLCC
footprint CAPC3216N (Chip Capacitor, Body 3.2x1.6mm, IPC Medium Density)
pins: 1, 2

## C1206C684K3RACTU
designator C?, comment 680nF
CAP MLCC, 680nF, 25V, 1206 [3216 Metric], ±10%, X7R; Manufacturer: KEMET; Manufacturer Part Number: C1206C684K3RACTU; Value: 680nF; Package: 1206 [3216 Metric]; Supplier 1: Farnell; Supplier Part Number 1: 2522524; ComponentLink1Description: Datasheet; ComponentLink1URL: https://api.kemet.com/component-edge/download/specsheet/C1206C684K3RACTU.pdf; Voltage: 25V; Tolerance: ± 10%; Dielectric: X7R; Mounting: SMD; Part Type: MLCC
footprint CAPC3216N (Chip Capacitor, Body 3.2x1.6mm, IPC Medium Density)
pins: 1, 2

## C1206C685K4PACTU
designator C?, comment 6.8uF
CAP MLCC, 6.8 µF, 16 V, 1206 [3216 Metric], ± 10%, X5R; Manufacturer: KEMET; Manufacturer Part Number: C1206C685K4PACTU; Voltage: 16V; Value: 6.8uF; Package: 1206 [3216 Metric]; Supplier 1: Farnell; Supplier Part Number 1: 1572638; ComponentLink1Description: Datasheet; ComponentLink1URL: https://api.kemet.com/component-edge/download/specsheet/C1206C685K4PACTU.pdf; Tolerance: ± 10%; Dielectric: X5R; Mounting: SMD; Part Type: MLCC
footprint CAPC3216N (Chip Capacitor, Body 3.2x1.6mm, IPC Medium Density)
pins: 1, 2

## C1206X475K3RACAUTO7210
designator C?, comment 4.7uF
CAP MLCC, 4.7uF, 25V, 1206 [3216 Metric], ±10%, X7R; Manufacturer: KEMET; Manufacturer Part Number: C1206X475K3RACAUTO7210; Value: 4.7uF; Package: 1206 [3216 Metric]; Supplier 1: Mouser; Supplier Part Number 1: 80-C1206X475K3RAUTLR; ComponentLink1Description: Datasheet; ComponentLink1URL: https://eu.mouser.com/datasheet/2/212/1/KEM_C1078_X7R_FT_CAP_AUTO_SMD-1103315.pdf; Voltage: 25V; Tolerance: ± 10%; Dielectric: X7R; Mounting: SMD; Part Type: MLCC
footprint CAPC3216N (Chip Capacitor, Body 3.2x1.6mm, IPC Medium Density)
pins: 1, 2

## C1608X5R1A156M080AC
designator C?, comment 15uF
CAP MLCC, 15uF, 10V, 0603 [1608 Metric], ±20%, X5R; Manufacturer: TDK; Manufacturer Part Number: C1608X5R1A156M080AC; Value: 15uF; Package: 0603 [1608 Metric]; Supplier 1: Farnell; Supplier Part Number 1: 3416097; ComponentLink1Description: Datasheet; ComponentLink1URL: http://www.farnell.com/datasheets/2859305.pdf; Voltage: 10V; Tolerance: ± 20%; Dielectric: X5R; Mounting: SMD; Part Type: MLCC
footprint CAPC1608N (Chip Capacitor, Body 1.6x0.8mm, Height 0.55mm, IPC Medium Density)
pins: 1, 2

## C1608X5R1A685K080AC
designator C?, comment 6.8uF
CAP MLCC, 6.8uF, 10V, 0603 [1608 Metric], ±10%, X5R; Manufacturer: TDK; Manufacturer Part Number: C1608X5R1A685K080AC; Value: 6.8uF; Package: 0603 [1608 Metric]; Supplier 1: Farnell; Supplier Part Number 1: 2211165; ComponentLink1Description: Datasheet; ComponentLink1URL: http://www.farnell.com/datasheets/2792994.pdf; Voltage: 10V; Tolerance: ± 10%; Dielectric: X5R; Mounting: SMD; Part Type: MLCC
footprint CAPC1608N (Chip Capacitor, Body 1.6x0.8mm, Height 0.55mm, IPC Medium Density)
pins: 1, 2

## C1608X5R1E155K080AB
designator C?, comment 1.5uF
CAP MLCC, 1.5uF, 25V, 0603 [1608 Metric], ±10%, X5R; Manufacturer: TDK; Manufacturer Part Number: C1608X5R1E155K080AB; Value: 1.5uF; Package: 0603 [1608 Metric]; Supplier 1: Farnell; Supplier Part Number 1: 2211176; ComponentLink1Description: Datasheet; ComponentLink1URL: http://www.farnell.com/datasheets/2792994.pdf; Voltage: 25V; Tolerance: ± 10%; Dielectric: X5R; Mounting: SMD; Part Type: MLCC
footprint CAPC1608N (Chip Capacitor, Body 1.6x0.8mm, Height 0.55mm, IPC Medium Density)
pins: 1, 2

## C1608X5R1E685K080AC
designator C?, comment 6.8uF
CAP MLCC, 6.8uF, 25V, 0603 [1608 Metric], ±10%, X5R; Manufacturer: TDK; Manufacturer Part Number: C1608X5R1E685K080AC; Value: 6.8uF; Package: 0603 [1608 Metric]; Supplier 1: Farnell; Supplier Part Number 1: 3416105; ComponentLink1Description: Datasheet; ComponentLink1URL: http://www.farnell.com/datasheets/2859305.pdf; Voltage: 25V; Tolerance: ± 10%; Dielectric: X5R; Mounting: SMD; Part Type: MLCC
footprint CAPC1608N (Chip Capacitor, Body 1.6x0.8mm, Height 0.55mm, IPC Medium Density)
pins: 1, 2

## C1608X5R1V335K080AC
designator C?, comment 3.3uF
CAP MLCC, 3.3uF, 35V, 0603 [1608 Metric], ±10%, X5R; Manufacturer: TDK; Manufacturer Part Number: C1608X5R1V335K080AC; Voltage: 50V; Dielectric: X7R; Value: 3.3uF; Package: 0603 [1608 Metric]; Supplier 1: Farnell; Supplier Part Number 1: 3416108; ComponentLink1Description: Datasheet; ComponentLink1URL: http://www.farnell.com/datasheets/2859305.pdf; Tolerance: ± 10%; Mounting: SMD; Part Type: MLCC
footprint CAPC1608N (Chip Capacitor, Body 1.6x0.8mm, Height 0.55mm, IPC Medium Density)
pins: 1, 2

## C1608X7R1E684K080AB
designator C?, comment 680nF
CAP MLCC, 680nF, 25V, 0603 [1608 Metric], ±10%, X7R; Manufacturer: TDK; Manufacturer Part Number: C1608X7R1E684K080AB; Value: 680nF; Package: 0603 [1608 Metric]; Supplier 1: Farnell; Supplier Part Number 1: 2346905; ComponentLink1Description: Datasheet; ComponentLink1URL: http://www.farnell.com/datasheets/2792994.pdf; Voltage: 25V; Tolerance: ± 10%; Dielectric: X7R; Mounting: SMD; Part Type: MLCC
footprint CAPC1608N (Chip Capacitor, Body 1.6x0.8mm, Height 0.55mm, IPC Medium Density)
pins: 1, 2

## C1608X7R1H103K080AA
designator C?, comment 10nF
CAP MLCC, 10nF, 50V, 0603 [1608 Metric], ±10%, X7R; Manufacturer: TDK; Manufacturer Part Number: C1608X7R1H103K080AA; Value: 10nF; Package: 0603 [1608 Metric]; Supplier 1: Farnell; Supplier Part Number 1: 1907315; ComponentLink1Description: Datasheet; ComponentLink1URL: http://www.farnell.com/datasheets/2792994.pdf; Voltage: 50V; Tolerance: ± 10%; Dielectric: X7R; Mounting: SMD; Part Type: MLCC
footprint CAPC1608N (Chip Capacitor, Body 1.6x0.8mm, Height 0.55mm, IPC Medium Density)
pins: 1, 2

## C1608X7S0J685K080AC
designator C?, comment 6.8uF
CAP MLCC, 6.8uF, 6.3V, 0603 [1608 Metric], ±10%, X7S; Manufacturer: TDK; Manufacturer Part Number: C1608X7S0J685K080AC; Value: 6.8uF; Package: 0603 [1608 Metric]; Supplier 1: Farnell; Supplier Part Number 1: 3416129; ComponentLink1Description: Datasheet; ComponentLink1URL: http://www.farnell.com/datasheets/2859305.pdf; Voltage: 6.3V; Tolerance: ± 10%; Dielectric: X7S; Mounting: SMD; Part Type: MLCC
footprint CAPC2012N (Chip Capacitor, Body 2.0x1.25mm, IPC Medium Density)
pins: 1, 2

## C2012C0G1V303J060AC
designator C?, comment 30nF
CAP MLCC, 30nF, 35V, 1206 [3216 Metric], ±5%, C0G / NP0; Manufacturer: TDK; Manufacturer Part Number: C2012C0G1V303J060AC; Value: 30nF; Package: 1206 [3216 Metric]; Supplier 1: Mouser; Supplier Part Number 1: 810-C2012C0G1V303JAC; ComponentLink1Description: Datasheet; ComponentLink1URL: https://eu.mouser.com/datasheet/2/40/X7RDielectric-777024.pdf; Voltage: 35V; Tolerance: ± 5%; Dielectric: C0G / NP0; Mounting: SMD; Part Type: MLCC
footprint CAPC3216N (Chip Capacitor, Body 3.2x1.6mm, IPC Medium Density)
pins: 1, 2

## C2012X5R1V156M125AC
designator C?, comment 15uF
CAP MLCC, 15uF, 35V, 0805 [2012 Metric], ±20%, X5R; Manufacturer: TDK; Manufacturer Part Number: C2012X5R1V156M125AC; Value: 15uF; Package: 0805 [2012 Metric]; Supplier 1: Farnell; Supplier Part Number 1: 3416166; ComponentLink1Description: Datasheet; ComponentLink1URL: http://www.farnell.com/datasheets/2859305.pdf; Voltage: 35V; Tolerance: ± 20%; Dielectric: X5R; Mounting: SMD; Part Type: MLCC
footprint CAPC2012N (Chip Capacitor, Body 2.0x1.25mm, IPC Medium Density)
pins: 1, 2

## C2012X7R1A685K125AC
designator C?, comment 6.8uF
CAP MLCC, 6.8uF, 10V, 0805 [2012 Metric], ±10%, X7R; Manufacturer: TDK; Manufacturer Part Number: C2012X7R1A685K125AC; Value: 6.8uF; Package: 0805 [2012 Metric]; Supplier 1: Farnell; Supplier Part Number 1: 3416174; ComponentLink1Description: Datasheet; ComponentLink1URL: http://www.farnell.com/datasheets/2859305.pdf; Voltage: 10V; Tolerance: ± 10%; Dielectric: X7R; Mounting: SMD; Part Type: MLCC
footprint CAPC2012N (Chip Capacitor, Body 2.0x1.25mm, IPC Medium Density)
pins: 1, 2

## C2012X7R1H225K125AC
designator C?, comment 2.2uF
CAP MLCC, 2.2uF, 50V, 0805 [2012 Metric], ±10%, X7R; Manufacturer: TDK; Manufacturer Part Number: C2012X7R1H225K125AC; Value: 2.2uF; Package: 0805 [2012 Metric]; Supplier 1: Farnell; Supplier Part Number 1: 2346945; ComponentLink1Description: Datasheet; ComponentLink1URL: http://www.farnell.com/datasheets/2792994.pdf; Voltage: 50V; Tolerance: ± 10%; Dielectric: X7R; Mounting: SMD; Part Type: MLCC
footprint CAPC2012N (Chip Capacitor, Body 2.0x1.25mm, IPC Medium Density)
pins: 1, 2

## C3216X5R1V156M160AC
designator C?, comment 15uF
CAP MLCC, 15uF, 35V, 1206 [3216 Metric], ±20%, X5R; Manufacturer: TDK; Manufacturer Part Number: C3216X5R1V156M160AC; Value: 15uF; Package: 1206 [3216 Metric]; Supplier 1: Farnell; Supplier Part Number 1: 3416223; ComponentLink1Description: Datasheet; ComponentLink1URL: http://www.farnell.com/datasheets/2859305.pdf; Voltage: 35V; Tolerance: ± 20%; Dielectric: X5R; Mounting: SMD; Part Type: MLCC
footprint CAPC3216N (Chip Capacitor, Body 3.2x1.6mm, IPC Medium Density)
pins: 1, 2

## C3216X7R1H105K160AE
designator C?, comment 1uF
CAP MLCC, 1uF, 50V, 1206 [3216 Metric], ±10%, X7R; Manufacturer: TDK; Manufacturer Part Number: C3216X7R1H105K160AE; Value: 1uF; Package: 1206 [3216 Metric]; Supplier 1: Farnell; Supplier Part Number 1: 2906841; ComponentLink1Description: Datasheet; ComponentLink1URL: http://www.farnell.com/datasheets/2370674.pdf; Voltage: 50V; Tolerance: ± 10%; Dielectric: X7R; Mounting: SMD; Part Type: MLCC
footprint CAPC3216N (Chip Capacitor, Body 3.2x1.6mm, IPC Medium Density)
pins: 1, 2

## C3216X7R1V685K160AC
designator C?, comment 6.8uF
CAP MLCC, 6.8uF, 35V, 1206 [3216 Metric], ±10%, X7R; Manufacturer: TDK; Manufacturer Part Number: C3216X7R1V685K160AC; Value: 6.8uF; Package: 1206 [3216 Metric]; Supplier 1: Farnell; Supplier Part Number 1: 3489927; ComponentLink1Description: Datasheet; ComponentLink1URL: http://www.farnell.com/datasheets/2859305.pdf; Voltage: 35V; Tolerance: ± 10%; Dielectric: X7R; Mounting: SMD; Part Type: MLCC
footprint CAPC3216N (Chip Capacitor, Body 3.2x1.6mm, IPC Medium Density)
pins: 1, 2

## C3216X7R2J223K130AA
designator C?, comment 22nF
CAP MLCC, 22nF, 630V, 1206 [3216 Metric], ±10%, X7R; Manufacturer: TDK; Manufacturer Part Number: C3216X7R2J223K130AA; Value: 22nF; Package: 1206 [3216 Metric]; Supplier 1: Farnell; Supplier Part Number 1: 2528786; ComponentLink1Description: Datasheet; ComponentLink1URL: https://4donline.ihs.com/images/VipMasterIC/IC/TDKC/TDKC-S-A0000596732/TDKC-S-A0000596732-1.pdf?hkey=52A5661711E402568146F3353EA87419; Voltage: 630V; Tolerance: ± 10%; Dielectric: X7R; Mounting: SMD; Part Type: MLCC
footprint CAPC3216N (Chip Capacitor, Body 3.2x1.6mm, IPC Medium Density)
pins: 1, 2

## CC0603KRX7R9BB183
designator C?, comment 18nF
CAP MLCC, 18nF, 50V, 0603 [1608 Metric], ±10%, X7R; Manufacturer: YAGEO; Manufacturer Part Number: CC0603KRX7R9BB183; Value: 18nF; Package: 0603 [1608 Metric]; Supplier 1: Farnell; Supplier Part Number 1: 3019743; ComponentLink1Description: Datasheet; ComponentLink1URL: http://www.farnell.com/datasheets/2167236.pdf; Voltage: 50V; Tolerance: ± 10%; Dielectric: X7R; Mounting: SMD; Part Type: MLCC
footprint CAPC1608N (Chip Capacitor, Body 1.6x0.8mm, Height 0.55mm, IPC Medium Density)
pins: 1, 2

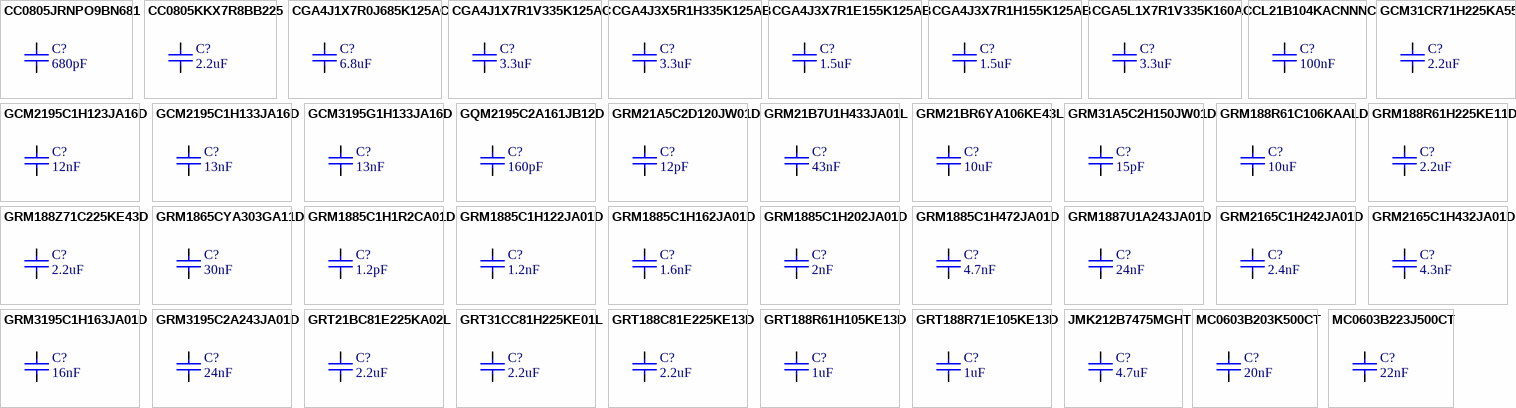
[diagram p2: symbols CC0805JRNPO9BN681 to MC0603B223J500CT]

## CC0805JRNPO9BN681
designator C?, comment 680pF
CAP MLCC, 680pF, 50V, 0805 [2012 Metric], ±5%, C0G/NP0; Manufacturer: YAGEO; Manufacturer Part Number: CC0805JRNPO9BN681; Value: 680pF; Package: 0805 [2012 Metric]; Supplier 1: Farnell; Supplier Part Number 1: 718543; ComponentLink1Description: Datasheet; ComponentLink1URL: http://www.farnell.com/datasheets/2213336.pdf; Voltage: 50V; Tolerance: ± 5%; Dielectric: C0G/NP0; Mounting: SMD; Part Type: MLCC
footprint CAPC2012N (Chip Capacitor, Body 2.0x1.25mm, IPC Medium Density)
pins: 1, 2

## CC0805KKX7R8BB225
designator C?, comment 2.2uF
CAP MLCC, 2.2uF 25V, 0805 [2012 Metric], ±10%, X7R; Manufacturer: YAGEO; Manufacturer Part Number: CC0805KKX7R8BB225; Value: 2.2uF; Package: 0805 [2012 Metric]; Supplier 1: Farnell; Supplier Part Number 1: 1458904; ComponentLink1Description: Datasheet; ComponentLink1URL: http://www.farnell.com/datasheets/2167236.pdf; Voltage: 25V; Tolerance: ± 10%; Dielectric: X7R; Mounting: SMD; Part Type: MLCC
footprint CAPC2012N (Chip Capacitor, Body 2.0x1.25mm, IPC Medium Density)
pins: 1, 2

## CGA4J1X7R0J685K125AC
designator C?, comment 6.8uF
CAP MLCC, 6.8uF, 6.3V, 0805 [2012 Metric], ±10%, X7R; Manufacturer: TDK; Manufacturer Part Number: CGA4J1X7R0J685K125AC; Value: 6.8uF; Package: 0805 [2012 Metric]; Supplier 1: Farnell; Supplier Part Number 1: 3651342; ComponentLink1Description: Datasheet; ComponentLink1URL: http://www.farnell.com/datasheets/3184159.pdf; Voltage: 6.3V; Tolerance: ± 10%; Dielectric: X7R; Mounting: SMD; Part Type: MLCC
footprint CAPC2012N (Chip Capacitor, Body 2.0x1.25mm, IPC Medium Density)
pins: 1, 2

## CGA4J1X7R1V335K125AC
designator C?, comment 3.3uF
CAP MLCC, 3.3uF, 35V, 0805 [2012 Metric], ±10%, X7R; Manufacturer: TDK; Manufacturer Part Number: CGA4J1X7R1V335K125AC; Value: 3.3uF; Package: 0805 [2012 Metric]; Supplier 1: Farnell; Supplier Part Number 1: 3490076; ComponentLink1Description: Datasheet; ComponentLink1URL: http://www.farnell.com/datasheets/2915229.pdf; Voltage: 35V; Tolerance: ± 10%; Dielectric: X7R; Mounting: SMD; Part Type: MLCC
footprint CAPC2012N (Chip Capacitor, Body 2.0x1.25mm, IPC Medium Density)
pins: 1, 2

## CGA4J3X5R1H335K125AB
designator C?, comment 3.3uF
CAP MLCC, 3.3uF, 50V, 0805 [2012 Metric], ±10%, X5R; Manufacturer: TDK; Manufacturer Part Number: CGA4J3X5R1H335K125AB; Value: 3.3uF; Package: 0805 [2012 Metric]; Supplier 1: Farnell; Supplier Part Number 1: 2210978; ComponentLink1Description: Datasheet; ComponentLink1URL: http://www.farnell.com/datasheets/1807242.pdf; Voltage: 50V; Tolerance: ± 10%; Dielectric: X5R; Mounting: SMD; Part Type: MLCC
footprint CAPC2012N (Chip Capacitor, Body 2.0x1.25mm, IPC Medium Density)
pins: 1, 2

## CGA4J3X7R1E155K125AB
designator C?, comment 1.5uF
CAP MLCC, 1.5uF, 25V, 0805 [2012 Metric], ±10%, X7R; Manufacturer: TDK; Manufacturer Part Number: CGA4J3X7R1E155K125AB; Value: 1.5uF; Package: 0805 [2012 Metric]; Supplier 1: Farnell; Supplier Part Number 1: 3490095; ComponentLink1Description: Datasheet; ComponentLink1URL: http://www.farnell.com/datasheets/2915229.pdf; Voltage: 25V; Tolerance: ± 10%; Dielectric: X7R; Mounting: SMD; Part Type: MLCC
footprint CAPC2012N (Chip Capacitor, Body 2.0x1.25mm, IPC Medium Density)
pins: 1, 2

## CGA4J3X7R1H155K125AB
designator C?, comment 1.5uF
CAP MLCC, 1.5uF, 50V, 0805 [2012 Metric], ±10%, X7R; Manufacturer: TDK; Manufacturer Part Number: CGA4J3X7R1H155K125AB; Value: 1.5uF; Package: 0805 [2012 Metric]; Supplier 1: Farnell; Supplier Part Number 1: 3490096; ComponentLink1Description: Datasheet; ComponentLink1URL: http://www.farnell.com/datasheets/2915229.pdf; Voltage: 50V; Tolerance: ± 10%; Dielectric: X7R; Mounting: SMD; Part Type: MLCC
footprint CAPC2012N (Chip Capacitor, Body 2.0x1.25mm, IPC Medium Density)
pins: 1, 2

## CGA5L1X7R1V335K160AC
designator C?, comment 3.3uF
CAP MLCC, 3.3uF, 35V, 1206 [3216 Metric], ± 10%, X7R; Manufacturer: TDK; Manufacturer Part Number: CGA5L1X7R1V335K160AC; Value: 3.3uF; Package: 1206 [3216 Metric]; Supplier 1: Farnell; Supplier Part Number 1: 3651375; ComponentLink1Description: Datasheet; ComponentLink1URL: http://www.farnell.com/datasheets/3184188.pdf; Voltage: 35V; Tolerance: ± 10%; Dielectric: X7R; Mounting: SMD; Part Type: MLCC
footprint CAPC3216N (Chip Capacitor, Body 3.2x1.6mm, IPC Medium Density)
pins: 1, 2

## CL21B104KACNNNC
designator C?, comment 100nF
CAP MLCC, 100nF, 25V, 0805 [2012 Metric], ±10%, X7R; Manufacturer: SAMSUNG ELECTRO-MECHANICS; Manufacturer Part Number: CL21B104KACNNNC; Value: 100nF; Package: 0805 [2012 Metric]; Supplier 1: Farnell; Supplier Part Number 1: 3010149; ComponentLink1Description: Datasheet; ComponentLink1URL: http://www.farnell.com/datasheets/2710651.pdf; Voltage: 25V; Tolerance: ± 10%; Dielectric: X7R; Mounting: SMD; Part Type: MLCC
footprint CAPC2012N (Chip Capacitor, Body 2.0x1.25mm, IPC Medium Density)
pins: 1, 2